# Altium footprint library PcbLib2.PcbLib: 1 footprints
Each footprint in its own frame and in the unit in brackets; x right, y up, seen from the top. Pads: shape width x height; smd on the part's side, far side on the other; paste and mask are expansions set on the pad; w line width, h text height; cw(c..) or ccw(c..) is an arc to the next point about the centre after c.
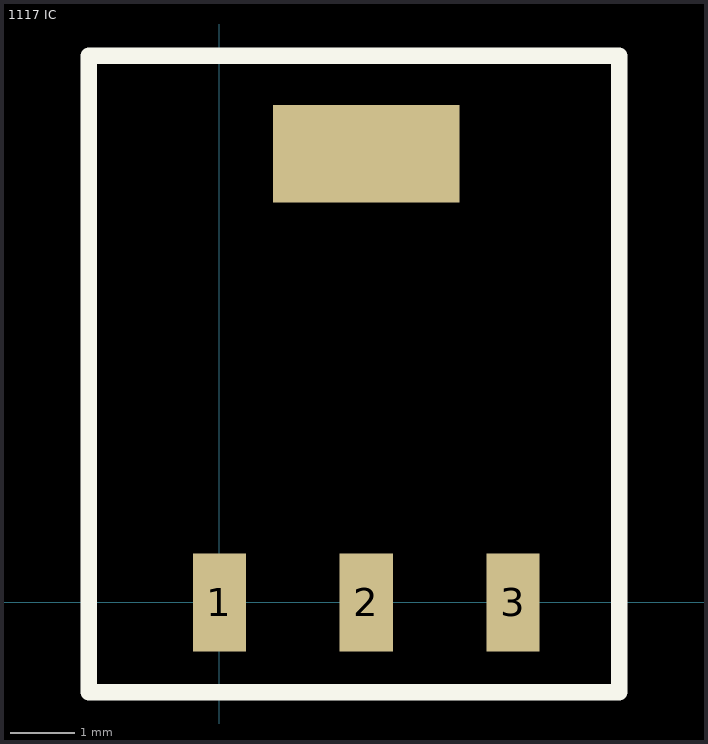
[diagram p0: the footprint, top view; thin cyan lines are the x and y axes]

## 1117 IC [mil]
pads (4):
  rect 32.62x60 smd: 1(0,0) 2(90,0) 3(180,0)
  rect 114.17x60 smd: ""(90,275)
Top Overlay:
  lines w10: -80,-55 245,-55 245,335 -80,335 -80,-55
3D body "TD03B_TEX.step": height 94.09, standoff -2.01, extent -42.52,-28.5 222.52,277.09